# Altium footprint library DDS1.PcbLib: 136 footprints (part 3 of 9)
Each footprint in its own frame and in the unit in brackets; x right, y up, seen from the top. Pads: shape width x height; smd on the part's side, far side on the other; paste and mask are expansions set on the pad; w line width, h text height; cw(c..) or ccw(c..) is an arc to the next point about the centre after c.
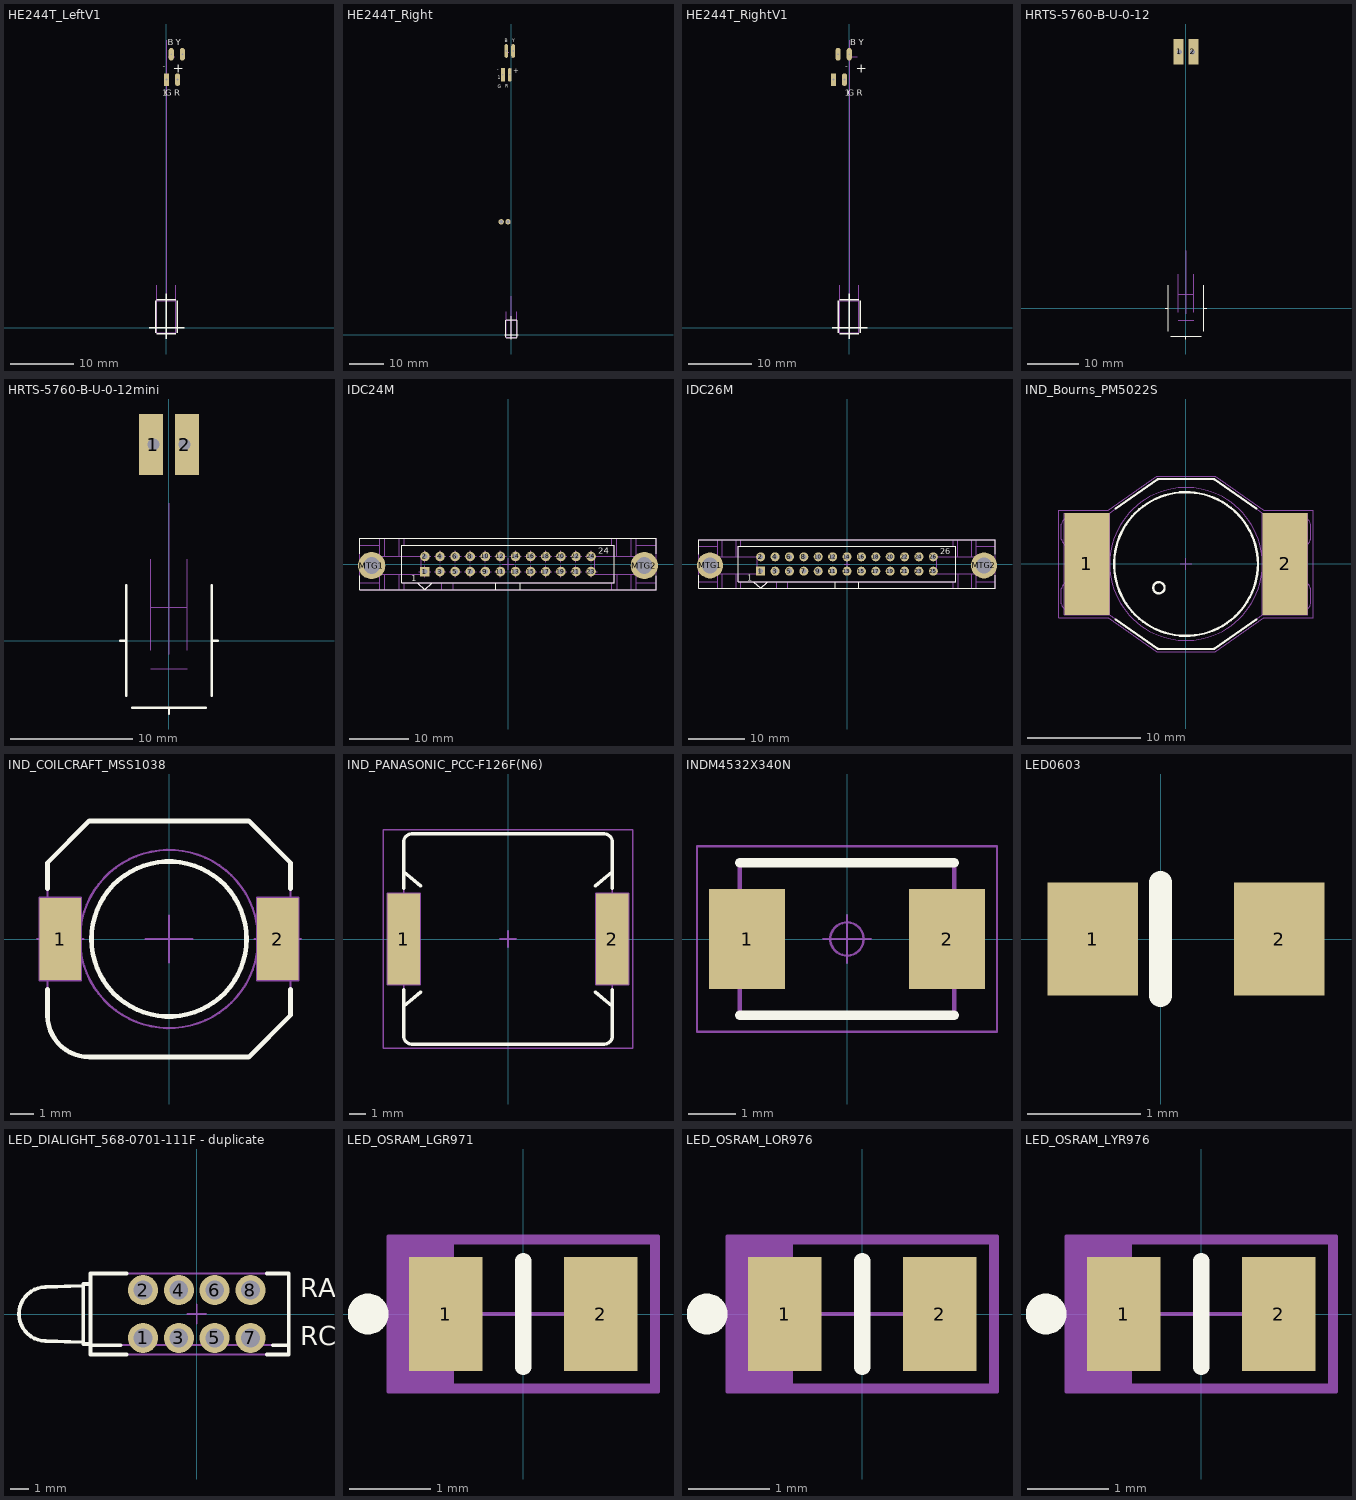
[diagram p2: the footprints below, top view; thin cyan lines are the x and y axes]

## HE244T_LeftV1 [mm] "he244t"
height 5.08
pads (4):
  rect 0.8x2 hole 0.3: 1(0,39)
  oval 0.8x2 hole 0.3: 2(1.75,39) 3(0.75,43) 4(2.5,43)
Top Overlay:
  lines w0.2: -2.7,0 2.8,0 ; -1.7,-0.8 -1.7,4.2 ; -1.5,-1 1.5,-1 ; -1.5,4.4 1.5,4.4 ; 0,-1.8 0,5.3 ; 1.7,-0.8 1.7,4.2
  text "+" at 1,40.1 h1.52
  text "-" at -0.6,40.4 h1.52
  text "G" at -0.2,36.5 h1
  text "Y" at 1.5,44.4 h1
  text "B" at 0.2,44.4 h1
  text "R" at 1.2,36.5 h1
  text "1" at -0.7,36.5 h1
Top Solder:
  rectangle: -1.5,-0.8 1.5,4.2
Mechanical 8:
  lines w0.1: 0.27,42.62 1.27,42.62
Mechanical 18:
  lines w0.05: -1.5,4.2 0,4.2 1.5,4.2 ; -1.5,6.645 -1.5,-0.8 0,-0.8 1.5,-0.8 1.5,6.62 ; 0,-1.1 0,45.2
3D body: height 0.8, standoff 0, extent -1.5,-0.8 1.5,4.2

## HE244T_Right [mm] "he244t"
height 5.08
pads (6):
  round 1.6 hole 1: 0(-3,33) 0(-1,33)
  rect 1.1x4 hole 0.5: 1(-2.5,76)
  oval 1.1x4 hole 0.5: 2(-0.5,76) 3(-1.5,83) 4(0.5,83)
Top Overlay:
  lines w0.2: -2,0 2,0 ; -1.7,-0.8 -1.7,4.2 ; -1.5,-1 1.5,-1 ; -1.5,4.4 1.5,4.4 ; 0,-1.3 0,5.3 ; 1.7,-0.8 1.7,4.2
  text "+" at 0.5,76.5 h1.52
  text "-" at -4.075,76.825 h1.52
  text "G" at -4,72.1 h1
  text "Y" at 0.3,85.5 h1
  text "B" at -1.9,85.5 h1
  text "R" at -1.8,72.2 h1
  text "1" at -4,74.7 h1
Top Solder:
  rectangle: -1.5,-0.8 1.5,4.2
Mechanical 8:
  lines w0.1: -1.73,82.62 -0.73,82.62
Mechanical 18:
  lines w0.05: -1.5,4.2 0,4.2 1.5,4.2 ; -1.5,6.645 -1.5,-0.8 0,-0.8 1.5,-0.8 1.5,6.62 ; 0,-1.1 0,11.2
3D body: height 0.8, standoff 0, extent -1.5,-0.8 1.5,4.2

## HE244T_RightV1 [mm] "he244t"
height 5.08
pads (4):
  rect 0.8x2 hole 0.3: 1(-2.5,39)
  oval 0.8x2 hole 0.3: 2(-0.75,39) 3(-1.75,43) 4(0,43)
Top Overlay:
  lines w0.2: -2.7,0 2.8,0 ; -1.7,-0.8 -1.7,4.2 ; -1.5,-1 1.5,-1 ; -1.5,4.4 1.5,4.4 ; 0,-1.8 0,5.3 ; 1.7,-0.8 1.7,4.2
  text "1" at -0.7,36.5 h1
  text "R" at 1.2,36.5 h1
  text "B" at 0.2,44.4 h1
  text "Y" at 1.5,44.4 h1
  text "G" at -0.2,36.5 h1
  text "-" at -0.6,40.4 h1.52
  text "+" at 1,40.1 h1.52
Top Solder:
  rectangle: -1.5,-0.8 1.5,4.2
Mechanical 8:
  lines w0.1: 0.27,42.62 1.27,42.62
Mechanical 18:
  lines w0.05: -1.5,4.2 0,4.2 1.5,4.2 ; -1.5,6.645 -1.5,-0.8 0,-0.8 1.5,-0.8 1.5,6.62 ; 0,-1.1 0,45.2
3D body: height 0.8, standoff 0, extent -1.5,-0.8 1.5,4.2

## HRTS-5760-B-U-0-12 [mm] "HRTS-5760-B-U-0-12"
height 5.08
pads (2):
  rect 2x5 hole 1 copper offset -0.2,0: 1(-1.27,50)
  rect 2x5 hole 1 copper offset 0.2,0: 2(1.27,50)
Top Overlay:
  lines w0.2: -4,0 -3.5,0 ; -3.5,-4.5 -3.5,4.5 ; -3,-5.5 3,-5.5 ; 0,-6 0,-5.5 ; 3.5,-4.5 3.5,-1.25 3.5,1.25 3.5,4.5 ; 3.5,0 4,0
Mechanical 18:
  lines w0.05: -1.5,-2.3 0,-2.3 1.5,-2.3 ; -1.5,-0.8 -1.5,6.645 ; -1.5,2.7 0,2.7 1.5,2.7 ; 0,-1.1 0,11.2 ; 1.5,-0.8 1.5,6.62
3D body: height -1, standoff -1.5, extent -2.5,-4 2.5,4
3D body: height 0.5, standoff -1, extent -2.5,-4 2.5,4

## HRTS-5760-B-U-0-12mini [mm] "Pt1000qwadratisch"
height 5.08
pads (2):
  rect 2x5 hole 1 copper offset -0.2,0: 1(-1.27,16)
  rect 2x5 hole 1 copper offset 0.2,0: 2(1.27,16)
Top Overlay:
  lines w0.2: -4,0 -3.5,0 ; -3.5,-4.5 -3.5,4.5 ; -3,-5.5 3,-5.5 ; 0,-6 0,-5.5 ; 3.5,-4.5 3.5,-1.25 3.5,1.25 3.5,4.5 ; 3.5,0 4,0
Mechanical 18:
  lines w0.05: -1.5,-2.3 0,-2.3 1.5,-2.3 ; -1.5,-0.8 -1.5,6.645 ; -1.5,2.7 0,2.7 1.5,2.7 ; 0,-1.1 0,11.2 ; 1.5,-0.8 1.5,6.62
3D body: height 0.5, standoff -1, extent -2.5,-4 2.5,4
3D body: height -1, standoff -1.5, extent -2.5,-4 2.5,4

## IDC24M [mm] "3M, 3000 Series, 24 Contacts - Pitch 2.54mm - Straight Four-Wall Header (Black) With Short Roll Pin Latch/Ejectors"
height 24.6
pads (26):
  rect 1.6x1.6 hole 0.9: 1(-13.97,-1.27)
  round 1.6 hole 0.9: 2(-13.97,1.27) 3(-11.43,-1.27) 4(-11.43,1.27) 5(-8.89,-1.27) 6(-8.89,1.27) 7(-6.35,-1.27) 8(-6.35,1.27) 9(-3.81,-1.27) 10(-3.81,1.27) 11(-1.27,-1.27) 12(-1.27,1.27) 13(1.27,-1.27) 14(1.27,1.27) 15(3.81,-1.27) 16(3.81,1.27) 17(6.35,-1.27) 18(6.35,1.27) 19(8.89,-1.27) 20(8.89,1.27) 21(11.43,-1.27) 22(11.43,1.27) 23(13.97,-1.27) 24(13.97,1.27)
  round 4.6 hole 2.8: MTG1(-22.924,-0.254) MTG2(22.924,-0.254)
Top Overlay:
  lines w0.2: -24.892,-2 -24.892,-4.318 ; -24.892,1.7 -24.892,4.3 ; -2.032,-4.318 -2.032,-3.175 ; 2.032,-4.318 2.032,-3.175 ; 14.732,-4.318 -24.892,-4.318 ; 14.732,4.318 -24.892,4.318 24.892,4.318 ; 24.892,-2 24.892,-4.318 -24.892,-4.318 ; 24.892,1.7 24.892,4.3 ; -17.907,-3.175 -17.907,3.175 17.907,3.175 17.907,-3.175 -17.907,-3.175 ; -15.24,-3.175 -13.97,-4.318 -12.7,-3.175 -15.24,-3.175
  text "24" at 15.205,1.727 h1.02
  text "1" at -16.307,-2.921 h1.02
Mechanical 8:
  lines w0.1: -14.97,-1.27 -13.97,-1.27 ; -14.97,1.27 -13.97,1.27 ; -13.97,-2.27 -13.97,-1.27 ; -13.97,-0.27 -13.97,-1.27 ; -13.97,0.27 -13.97,1.27 ; -13.97,2.27 -13.97,1.27 ; -12.97,-1.27 -13.97,-1.27 ; -12.97,1.27 -13.97,1.27 ; -12.43,-1.27 -11.43,-1.27 ; -12.43,1.27 -11.43,1.27 ; -11.43,-2.27 -11.43,-1.27 ; -11.43,-0.27 -11.43,-1.27 ; -11.43,0.27 -11.43,1.27 ; -11.43,2.27 -11.43,1.27 ; -10.43,-1.27 -11.43,-1.27 ; -10.43,1.27 -11.43,1.27 ; -9.89,-1.27 -8.89,-1.27 ; -9.89,1.27 -8.89,1.27 ; -8.89,-2.27 -8.89,-1.27 ; -8.89,-0.27 -8.89,-1.27 ; -8.89,0.27 -8.89,1.27 ; -8.89,2.27 -8.89,1.27 ; -7.89,-1.27 -8.89,-1.27 ; -7.89,1.27 -8.89,1.27 ; -7.35,-1.27 -6.35,-1.27 ; -7.35,1.27 -6.35,1.27 ; -6.35,-2.27 -6.35,-1.27 ; -6.35,-0.27 -6.35,-1.27 ; -6.35,0.27 -6.35,1.27 ; -6.35,2.27 -6.35,1.27 ; -5.35,-1.27 -6.35,-1.27 ; -5.35,1.27 -6.35,1.27 ; -4.81,-1.27 -3.81,-1.27 ; -4.81,1.27 -3.81,1.27 ; -3.81,-2.27 -3.81,-1.27 ; -3.81,-0.27 -3.81,-1.27 ; -3.81,0.27 -3.81,1.27 ; -3.81,2.27 -3.81,1.27 ; -2.81,-1.27 -3.81,-1.27 ; -2.81,1.27 -3.81,1.27 ; -2.27,-1.27 -1.27,-1.27 ; -2.27,1.27 -1.27,1.27 ; -1.27,-2.27 -1.27,-1.27 ; -1.27,-0.27 -1.27,-1.27 ; -1.27,0.27 -1.27,1.27 ; -1.27,2.27 -1.27,1.27 ; -1,0 0,0 ; -0.27,-1.27 -1.27,-1.27 ; -0.27,1.27 -1.27,1.27 ; 0,-1 0,0 ; 0,1 0,0 ; 0.27,-1.27 1.27,-1.27 ; 0.27,1.27 1.27,1.27 ; 1,0 0,0 ; 1.27,-2.27 1.27,-1.27 ; 1.27,-0.27 1.27,-1.27 ; 1.27,0.27 1.27,1.27 ; 1.27,2.27 1.27,1.27 ; 2.27,-1.27 1.27,-1.27 ; 2.27,1.27 1.27,1.27 ; 2.81,-1.27 3.81,-1.27 ; 2.81,1.27 3.81,1.27 ; 3.81,-2.27 3.81,-1.27 ; 3.81,-0.27 3.81,-1.27 ; 3.81,0.27 3.81,1.27 ; 3.81,2.27 3.81,1.27 ; 4.81,-1.27 3.81,-1.27 ; 4.81,1.27 3.81,1.27 ; 5.35,-1.27 6.35,-1.27 ; 5.35,1.27 6.35,1.27 ; 6.35,-2.27 6.35,-1.27 ; 6.35,-0.27 6.35,-1.27 ; 6.35,0.27 6.35,1.27 ; 6.35,2.27 6.35,1.27 ; 7.35,-1.27 6.35,-1.27 ; 7.35,1.27 6.35,1.27 ; 7.89,-1.27 8.89,-1.27 ; 7.89,1.265 8.89,1.265 ; 8.89,-2.27 8.89,-1.27 ; 8.89,-0.27 8.89,-1.27 ; 8.89,0.27 8.89,1.27 ; 8.89,2.27 8.89,1.27 ; 9.89,-1.27 8.89,-1.27 ; 9.89,1.27 8.89,1.27 ; 10.43,-1.27 11.43,-1.27 ; 10.43,1.27 11.43,1.27 ; 11.43,-2.27 11.43,-1.27 ; 11.43,-0.27 11.43,-1.27 ; 11.43,0.27 11.43,1.27 ; 11.43,2.27 11.43,1.27 ; 12.43,-1.27 11.43,-1.27 ; 12.43,1.27 11.43,1.27 ; 12.97,-1.27 13.97,-1.27 ; 12.97,1.265 13.97,1.265 ; 13.97,-2.27 13.97,-1.27 ; 13.97,-0.27 13.97,-1.27 ; 13.97,0.27 13.97,1.27 ; 13.97,2.27 13.97,1.27 ; 14.97,-1.27 13.97,-1.27 ; 14.97,1.27 13.97,1.27
Mechanical 14:
  circle w0.1: c-22.924,-0.254 r1.27
  circle w0.1: c22.924,-0.254 r1.27
  lines w0.1: -24.892,-3.175 -21.564,-3.175 ; -23.924,-0.254 -22.924,-0.254 ; -22.924,-1.254 -22.924,-0.254 ; -22.924,0.746 -22.924,-0.254 ; -21.924,-0.254 -22.924,-0.254 ; -21.564,-4.318 -21.564,-1.727 -14.605,-1.727 -14.605,1.27 -21.564,1.27 -21.564,4.318 ; -20.722,-4.318 -20.722,-1.727 ; -20.722,1.27 -20.722,4.318 ; -18.289,-4.318 -18.288,-1.727 ; -17.907,-1.727 -17.907,-3.175 17.907,-3.175 17.907,-1.727 ; -17.907,1.27 -17.907,3.175 17.907,3.175 17.907,1.27 ; -11.119,-4.318 -11.119,-3.175 ; -9.201,-4.318 -9.201,-3.175 ; 17.446,-4.318 17.446,-3.175 ; 17.446,3.175 17.446,4.318 ; 18.288,1.27 18.288,4.318 ; 18.329,-4.318 18.329,-1.727 ; 20.722,-4.318 20.722,-1.727 ; 20.722,1.27 20.722,4.318 ; 21.564,-4.318 21.564,-1.727 14.605,-1.727 14.605,1.27 21.564,1.27 21.564,4.318 ; 21.564,-3.175 24.892,-3.175 ; 21.564,3.175 24.892,3.175 ; 21.924,-0.254 22.924,-0.254 ; 22.924,-1.254 22.924,-0.254 ; 22.924,0.746 22.924,-0.254 ; 23.924,-0.254 22.924,-0.254 ; -24.892,-4.318 24.892,-4.318 24.892,4.318 -24.892,4.318 -24.892,-4.318 ; -24.892,3.175 -21.564,3.175 -24.892,3.175 ; -24.448,-1.134 -24.448,0.626 -22.924,1.506 -21.4,0.626 -21.4,-1.134 -22.924,-2.014 -24.448,-1.134 ; -18.288,1.27 -18.288,4.318 -18.288,1.27 ; -17.446,-4.318 -17.446,-3.175 -17.446,-4.318 ; -17.446,3.175 -17.446,4.318 -17.446,3.175 ; -15.24,-3.175 -13.97,-4.318 -12.7,-3.175 -15.24,-3.175 ; 21.4,-1.134 21.4,0.626 22.924,1.506 24.448,0.626 24.448,-1.134 22.924,-2.014 21.4,-1.134
  text "24" at 15.205,1.727 h1.02
  text "1" at -16.307,-2.921 h1.02
3D body "3M_3627-6202RB.stp": height 24.64, standoff -3.94, extent -24.892,-4.318 24.892,4.318

## IDC26M [mm] "3M, 3000 Series, 26 Contacts - Pitch 2.54mm - Straight Four-Wall Header (Black) With Long Roll Pin Latch/Ejectors"
height 24.6
pads (28):
  rect 1.6x1.6 hole 0.9: 1(-15.24,-1.27)
  round 1.6 hole 0.9: 2(-15.24,1.27) 3(-12.7,-1.27) 4(-12.7,1.27) 5(-10.16,-1.27) 6(-10.16,1.27) 7(-7.62,-1.27) 8(-7.62,1.27) 9(-5.08,-1.27) 10(-5.08,1.27) 11(-2.54,-1.27) 12(-2.54,1.27) 13(0,-1.27) 14(0,1.27) 15(2.54,-1.27) 16(2.54,1.27) 17(5.08,-1.27) 18(5.08,1.27) 19(7.62,-1.27) 20(7.62,1.27) 21(10.16,-1.27) 22(10.16,1.27) 23(12.7,-1.27) 24(12.7,1.27) 25(15.24,-1.27) 26(15.24,1.27)
  round 4.6 hole 2.8: MTG1(-24.18,-0.25) MTG2(24.18,-0.25)
Top Overlay:
  lines w0.2: -26.162,-2 -26.162,-4.318 26.162,-4.318 26.162,-2 ; -26.162,1.7 -26.162,4.3 ; -26.162,4.318 26.162,4.318 ; -2.032,-4.318 -2.032,-3.175 ; 2.032,-4.318 2.032,-3.175 ; 26.162,1.7 26.162,4.3 ; -19.177,-3.175 -19.177,3.175 19.177,3.175 19.177,-3.175 -19.177,-3.175 ; -16.51,-3.175 -15.24,-4.318 -13.97,-3.175 -16.51,-3.175
  text "26" at 16.475,1.727 h1.02
  text "1" at -17.577,-2.921 h1.02
Mechanical 8:
  lines w0.1: -24.68,-0.25 -24.18,-0.25 ; -24.18,-0.75 -24.18,-0.25 ; -24.18,0.25 -24.18,-0.25 ; -23.68,-0.25 -24.18,-0.25 ; -15.74,-1.27 -15.24,-1.27 ; -15.74,1.27 -15.24,1.27 ; -15.24,-1.77 -15.24,-1.27 ; -15.24,-0.77 -15.24,-1.27 ; -15.24,0.77 -15.24,1.27 ; -15.24,1.77 -15.24,1.27 ; -14.74,-1.27 -15.24,-1.27 ; -14.74,1.27 -15.24,1.27 ; -13.2,-1.27 -12.7,-1.27 ; -13.2,1.27 -12.7,1.27 ; -12.7,-1.77 -12.7,-1.27 ; -12.7,-0.77 -12.7,-1.27 ; -12.7,0.77 -12.7,1.27 ; -12.7,1.77 -12.7,1.27 ; -12.2,-1.27 -12.7,-1.27 ; -12.2,1.27 -12.7,1.27 ; -10.66,-1.27 -10.16,-1.27 ; -10.66,1.27 -10.16,1.27 ; -10.16,-1.77 -10.16,-1.27 ; -10.16,-0.77 -10.16,-1.27 ; -10.16,0.77 -10.16,1.27 ; -10.16,1.77 -10.16,1.27 ; -9.66,-1.27 -10.16,-1.27 ; -9.66,1.27 -10.16,1.27 ; -8.12,-1.27 -7.62,-1.27 ; -8.12,1.27 -7.62,1.27 ; -7.62,-1.77 -7.62,-1.27 ; -7.62,-0.77 -7.62,-1.27 ; -7.62,0.77 -7.62,1.27 ; -7.62,1.77 -7.62,1.27 ; -7.12,-1.27 -7.62,-1.27 ; -7.12,1.27 -7.62,1.27 ; -5.58,-1.27 -5.08,-1.27 ; -5.58,1.27 -5.08,1.27 ; -5.08,-1.77 -5.08,-1.27 ; -5.08,-0.77 -5.08,-1.27 ; -5.08,0.77 -5.08,1.27 ; -5.08,1.77 -5.08,1.27 ; -4.58,-1.27 -5.08,-1.27 ; -4.58,1.27 -5.08,1.27 ; -3.04,-1.27 -2.54,-1.27 ; -3.04,1.27 -2.54,1.27 ; -2.54,-1.77 -2.54,-1.27 ; -2.54,-0.77 -2.54,-1.27 ; -2.54,0.77 -2.54,1.27 ; -2.54,1.77 -2.54,1.27 ; -2.04,-1.27 -2.54,-1.27 ; -2.04,1.27 -2.54,1.27 ; -0.5,-1.27 0,-1.27 ; -0.5,0 0,0 ; -0.5,1.27 0,1.27 ; 0,-1.77 0,-1.27 ; 0,-0.77 0,-1.27 ; 0,-0.5 0,0 ; 0,0.5 0,0 ; 0,0.77 0,1.27 ; 0,1.77 0,1.27 ; 0.5,-1.27 0,-1.27 ; 0.5,0 0,0 ; 0.5,1.27 0,1.27 ; 2.04,-1.27 2.54,-1.27 ; 2.04,1.27 2.54,1.27 ; 2.54,-1.77 2.54,-1.27 ; 2.54,-0.77 2.54,-1.27 ; 2.54,0.77 2.54,1.27 ; 2.54,1.77 2.54,1.27 ; 3.04,-1.27 2.54,-1.27 ; 3.04,1.27 2.54,1.27 ; 4.58,-1.27 5.08,-1.27 ; 4.58,1.27 5.08,1.27 ; 5.08,-1.77 5.08,-1.27 ; 5.08,-0.77 5.08,-1.27 ; 5.08,0.77 5.08,1.27 ; 5.08,1.77 5.08,1.27 ; 5.58,-1.27 5.08,-1.27 ; 5.58,1.27 5.08,1.27 ; 7.12,-1.27 7.62,-1.27 ; 7.12,1.27 7.62,1.27 ; 7.62,-1.77 7.62,-1.27 ; 7.62,-0.77 7.62,-1.27 ; 7.62,0.77 7.62,1.27 ; 7.62,1.77 7.62,1.27 ; 8.12,-1.27 7.62,-1.27 ; 8.12,1.27 7.62,1.27 ; 9.66,-1.27 10.16,-1.27 ; 9.66,1.27 10.16,1.27 ; 10.16,-1.77 10.16,-1.27 ; 10.16,-0.77 10.16,-1.27 ; 10.16,0.77 10.16,1.27 ; 10.16,1.77 10.16,1.27 ; 10.66,-1.27 10.16,-1.27 ; 10.66,1.27 10.16,1.27 ; 12.2,-1.27 12.7,-1.27 ; 12.2,1.27 12.7,1.27 ; 12.7,-1.77 12.7,-1.27 ; 12.7,-0.77 12.7,-1.27 ; 12.7,0.77 12.7,1.27 ; 12.7,1.77 12.7,1.27 ; 13.2,-1.27 12.7,-1.27 ; 13.2,1.27 12.7,1.27 ; 14.74,-1.27 15.24,-1.27 ; 14.74,1.27 15.24,1.27 ; 15.24,-1.77 15.24,-1.27 ; 15.24,-0.77 15.24,-1.27 ; 15.24,0.77 15.24,1.27 ; 15.24,1.77 15.24,1.27 ; 15.74,-1.27 15.24,-1.27 ; 15.74,1.27 15.24,1.27 ; 23.68,-0.25 24.18,-0.25 ; 24.18,-0.75 24.18,-0.25 ; 24.18,0.25 24.18,-0.25 ; 24.68,-0.25 24.18,-0.25
Mechanical 14:
  circle w0.1: c-24.194,-0.254 r1.27
  circle w0.1: c24.194,-0.254 r1.27
  lines w0.1: -26.162,-3.175 -22.834,-3.175 ; -22.834,-4.318 -22.834,-1.727 -15.875,-1.727 -15.875,1.27 -22.834,1.27 -22.834,4.318 ; -21.992,-4.318 -21.992,-1.727 ; -21.992,1.27 -21.992,4.318 ; -19.559,-4.318 -19.558,-1.727 ; -19.177,-1.727 -19.177,-3.175 19.177,-3.175 19.177,-1.727 ; -19.177,1.27 -19.177,3.175 19.177,3.175 19.177,1.27 ; -12.389,-4.318 -12.389,-3.175 ; -10.471,-4.318 -10.471,-3.175 ; 18.716,-4.318 18.716,-3.175 ; 18.716,3.175 18.716,4.318 ; 19.558,1.27 19.558,4.318 ; 19.599,-4.318 19.599,-1.727 ; 21.992,-4.318 21.992,-1.727 ; 21.992,1.27 21.992,4.318 ; 22.834,-4.318 22.834,-1.727 15.875,-1.727 15.875,1.27 22.834,1.27 22.834,4.318 ; 22.834,-3.175 26.162,-3.175 ; 22.834,3.175 26.162,3.175 ; -26.162,-4.318 26.162,-4.318 26.162,4.318 -26.162,4.318 -26.162,-4.318 ; -26.162,3.175 -22.834,3.175 -26.162,3.175 ; -25.718,-1.134 -25.718,0.626 -24.194,1.506 -22.67,0.626 -22.67,-1.134 -24.194,-2.014 -25.718,-1.134 ; -19.558,1.27 -19.558,4.318 -19.558,1.27 ; -18.716,-4.318 -18.716,-3.175 -18.716,-4.318 ; -18.716,3.175 -18.716,4.318 -18.716,3.175 ; -16.51,-3.175 -15.24,-4.318 -13.97,-3.175 -16.51,-3.175 ; 22.67,-1.134 22.67,0.626 24.194,1.506 25.718,0.626 25.718,-1.134 24.194,-2.014 22.67,-1.134
  text "26" at 16.475,1.727 h1.02
  text "1" at -17.577,-2.921 h1.02
3D body "3M_N3429-6302RB.stp": height 27.18, standoff -3.94, extent -26.162,-4.318 26.162,4.318

## IND_Bourns_PM5022S [mm] "SMD Power Choke, Body Width 15mm Body Lenght 15mm Height 7.8mm, WURTH WE-PD 4 Serie Type XL"
height 7.8
pads (2):
  rect 4x9 smd: 1(-8.75,0) 2(8.75,0)
Top Overlay:
  circle w0.2: c-2.395,-2.099 r0.5
  circle w0.2: c0,0 r6.35
  lines w0.2: -6.214,-4.9 -2.552,-7.464 ccw(c-2.437,-7.3) -2.437,-7.5 2.437,-7.5 ccw(c2.437,-7.3) 2.552,-7.464 6.214,-4.9 ; -6.214,4.9 -2.552,7.464 cw(c-2.437,7.3) -2.437,7.5 2.437,7.5 cw(c2.437,7.3) 2.552,7.464 6.214,4.9
Mechanical 8:
  lines w0.1: -9.25,0 -8.75,0 ; -8.75,-0.5 -8.75,0 ; -8.75,0.5 -8.75,0 ; -8.25,0 -8.75,0 ; -0.5,0 0,0 ; 0,-0.5 0,0 ; 0,0.5 0,0 ; 0.5,0 0,0 ; 8.25,0 8.75,0 ; 8.75,-0.5 8.75,0 ; 8.75,0.5 8.75,0 ; 9.25,0 8.75,0 ; -10.75,-4.5 -6.75,-4.5 -6.75,4.5 -10.75,4.5 -10.75,-4.5 ; 6.75,-4.5 10.75,-4.5 10.75,4.5 6.75,4.5 6.75,-4.5
Mechanical 14:
  circle w0.1: c-2.395,-2.099 r0.5
  circle w0.1: c0,0 r6.75
  lines w0.1: -9.8,-3 -10,-3 -10,-3.5 cw(c-10.5,-3.5) -11,-3.5 -11,-2.2 cw(c-10.5,-2.2) -10.852,-1.845 -10.059,-1.059 ccw(c-10.2,-0.917) -10,-0.917 -10,0.917 ccw(c-10.2,0.917) -10.059,1.059 -10.852,1.845 cw(c-10.5,2.2) -11,2.2 -11,3.5 cw(c-10.5,3.5) -10,3.5 -10,3 -9.8,3 ; -7.5,-3.896 ccw(c-7.3,-3.896) -7.415,-4.06 -2.552,-7.464 ccw(c-2.437,-7.3) -2.437,-7.5 2.437,-7.5 ccw(c2.437,-7.3) 2.552,-7.464 7.415,-4.06 ccw(c7.3,-3.896) 7.5,-3.896 ; -7.5,3.896 cw(c-7.3,3.896) -7.415,4.06 -2.552,7.464 cw(c-2.437,7.3) -2.437,7.5 2.437,7.5 cw(c2.437,7.3) 2.552,7.464 7.415,4.06 cw(c7.3,3.896) 7.5,3.896 ; 9.8,-3 10,-3 10,-3.5 ccw(c10.5,-3.5) 11,-3.5 11,-2.2 ccw(c10.5,-2.2) 10.852,-1.845 10.059,-1.059 cw(c10.2,-0.917) 10,-0.917 10,0.917 cw(c10.2,0.917) 10.059,1.059 10.852,1.845 ccw(c10.5,2.2) 11,2.2 11,3.5 ccw(c10.5,3.5) 10,3.5 10,3 9.8,3 ; -9.8,-4 -9.8,4 -7.5,4 -7.5,-4 -9.8,-4 ; 7.5,-4 7.5,4 9.8,4 9.8,-4 7.5,-4
Mechanical 15:
  lines w0.1: -11.25,-4.75 -6.865,-4.75 -2.579,-7.75 2.579,-7.75 6.865,-4.75 11.25,-4.75 11.25,4.75 6.865,4.75 2.579,7.75 -2.579,7.75 -6.865,4.75 -11.25,4.75 -11.25,-4.75
3D body "IND_WURTH_WE-PD4-XL.stp": height 7, standoff 0, extent -11,-7.5 11,7.5

## IND_COILCRAFT_MSS1038 [mm] "SMD Inductor  Body Width 10mm Body Lenght 10.2mm Height 4mm"
height 4
pads (2):
  rect 1.78x3.56 smd: 1(-4.7,0) 2(4.7,0)
Top Overlay:
  circle w0.2: c0,0 r3.35
  lines w0.2: -5.25,-2.18 -5.25,-3.3 ccw(c-3.45,-3.3) -3.45,-5.1 3.45,-5.1 5.25,-3.3 5.25,-2.18 ; -5.25,2.18 -5.25,3.3 -3.45,5.1 3.45,5.1 5.25,3.3 5.25,2.18
Mechanical 8:
  lines w0.1: -5.7,0 -4.7,0 ; -4.7,-1 -4.7,0 ; -4.7,1 -4.7,0 ; -3.7,0 -4.7,0 ; -1,0 0,0 ; 0,-1 0,0 ; 0,1 0,0 ; 1,0 0,0 ; 3.7,0 4.7,0 ; 4.7,-1 4.7,0 ; 4.7,1 4.7,0 ; 5.7,0 4.7,0 ; -5.59,-1.78 -3.81,-1.78 -3.81,1.78 -5.59,1.78 -5.59,-1.78 ; 3.81,-1.78 5.59,-1.78 5.59,1.78 3.81,1.78 3.81,-1.78
Mechanical 14:
  circle w0.1: c0,0 r3.85
  circle w0.1: c0,0 r3.35
  lines w0.1: -5.25,-1.6 -5.25,1.6 ; -5.25,-1.6 -5.25,-3.3 ccw(c-3.45,-3.3) -3.45,-5.1 3.45,-5.1 5.25,-3.3 5.25,-1.6 ; -5.25,-1.6 -3.85,-1.6 -3.85,1.6 -5.25,1.6 ; -5.25,1.6 -5.25,3.3 -3.45,5.1 3.45,5.1 5.25,3.3 5.25,1.6 ; 5.25,-1.6 5.25,1.6 ; 5.25,-1.6 3.85,-1.6 3.85,1.6 5.25,1.6
3D body "IND_COILCRAFT_MSS1038.stp": height 4, standoff 0, extent -5.25,-5.1 5.25,5.1

## IND_PANASONIC_PCC-F126F(N6) [mm] "SMD Inductor  Body Width 12.5mm Body Lenght 12.5mm Height 5.7mm, PANASONIC PCC-F126(N6) Series"
height 5.7
pads (2):
  rect 2x5.6 smd: 1(-6.4,0) 2(6.4,0)
Top Overlay:
  lines w0.2: -6.4,-4.125 -5.35,-3.25 ; -6.4,-3.1 -6.4,-5.95 ccw(c-5.9,-5.95) -5.9,-6.45 5.9,-6.45 ccw(c5.9,-5.95) 6.4,-5.95 6.4,-3.1 ; -6.4,3.1 -6.4,5.95 cw(c-5.9,5.95) -5.9,6.45 5.9,6.45 cw(c5.9,5.95) 6.4,5.95 6.4,3.1 ; -6.4,4.125 -5.35,3.25 ; 5.35,-3.25 6.4,-4.125 ; 5.35,3.25 6.4,4.125
Mechanical 8:
  lines w0.1: -6.9,0 -6.4,0 ; -6.4,-0.5 -6.4,0 ; -6.4,0.5 -6.4,0 ; -5.9,0 -6.4,0 ; -0.5,0 0,0 ; 0,-0.5 0,0 ; 0,0.5 0,0 ; 0.5,0 0,0 ; 5.9,0 6.4,0 ; 6.4,-0.5 6.4,0 ; 6.4,0.5 6.4,0 ; 6.9,0 6.4,0 ; -7.4,-2.8 -5.4,-2.8 -5.4,2.8 -7.4,2.8 -7.4,-2.8 ; 5.4,-2.8 7.4,-2.8 7.4,2.8 5.4,2.8 5.4,-2.8
Mechanical 14:
  lines w0.1: -6.4,-5.95 ccw(c-5.9,-5.95) -5.9,-6.45 5.9,-6.45 ccw(c5.9,-5.95) 6.4,-5.95 6.4,5.95 ccw(c5.9,5.95) 5.9,6.45 -5.9,6.45 ccw(c-5.9,5.95) -6.4,5.95 -6.4,-5.95
Mechanical 15:
  lines w0.1: -7.65,-6.7 -7.65,6.7 7.65,6.7 7.65,-6.7 -7.65,-6.7
3D body "IND_PANASONIC_PCC-F126F(N6).stp": height 5.7, standoff -0.3, extent -6.25,-6.25 6.25,6.25

## INDM4532X340N [mm]
pads (2):
  rect 1.6x2.1 smd: 1(-2.1,0) 2(2.1,0)
Top Overlay:
  lines w0.2: -2.25,-1.6 2.25,-1.6 ; -2.25,1.6 2.25,1.6
Mechanical 14:
  lines w0.1: -2.25,-1.6 2.25,-1.6 2.25,1.6 -2.25,1.6 -2.25,-1.6
Mechanical 15:
  circle w0.05: c0,0 r0.35
  lines w0.05: -0.5,0 0.5,0 ; 0,-0.5 0,0.5 ; -3.15,-1.95 3.15,-1.95 3.15,1.95 -3.15,1.95 -3.15,-1.95
3D body "INDM4532X340N.stp": height 3.4, standoff 0, extent -2.25,-1.6 2.25,1.6

## LED0603 [mm]
pads (2):
  rect 0.8x1 smd: 1(-0.6,0) 2(1.05,0)
Top Overlay:
  lines w0.2: 0,-0.5 0,-0.25 0,0.25 0,0.5
Mechanical 14:
  lines w0.1: -0.65,-0.4 -0.65,0.4 ; 0.95,-0.4 0.95,0.4
3D body: height 0.95, standoff 0.1, extent -0.487,-0.475 1.037,0.475
3D body: height 0.1, standoff 0, extent -0.3,-0.475 0.85,0.475
3D body: height 0.1, standoff 0, extent 0.85,-0.475 1.224,0.475
3D body: height 0.1, standoff 0, extent -0.674,-0.475 -0.3,0.475

## LED_DIALIGHT_568-0701-111F - duplicate [mm] "Quad-Level 4x3mm Bi-Color Red/Green, LED CBI Circuit Board Indicator"
height 20.32
pads (8):
  round 1.6 hole 1: 1(-2.857,-1.27) 2(-2.857,1.27) 3(-0.952,-1.27) 4(-0.952,1.27) 5(0.953,-1.27) 6(0.953,1.27) 7(2.858,-1.27) 8(2.858,1.27)
Top Overlay:
  lines w0.2: -6.032,-1.499 -8.05,-1.441 cw(c-8.014,0) -8.05,1.441 -6.032,1.499 ; -5.651,-1.659 -4.045,-1.659 ; -5.651,-1.6 -6.032,-1.6 -6.032,1.6 -5.651,1.6 ; -3.736,-2.159 -5.651,-2.159 -5.651,2.159 -3.736,2.159 ; 3.736,-2.159 4.89,-2.159 4.89,2.159 3.736,2.159 ; 4.045,-1.659 4.89,-1.659
  text "RC" at 5.502,-1.651 h1
  text "RA" at 5.502,0.889 h1
Mechanical 8:
  lines w0.1: -3.357,-1.27 -2.857,-1.27 ; -3.357,1.27 -2.857,1.27 ; -2.857,-1.77 -2.857,-1.27 ; -2.857,-0.77 -2.857,-1.27 ; -2.857,0.77 -2.857,1.27 ; -2.857,1.77 -2.857,1.27 ; -2.357,-1.27 -2.857,-1.27 ; -2.357,1.27 -2.857,1.27 ; -1.452,-1.27 -0.952,-1.27 ; -1.452,1.27 -0.952,1.27 ; -0.952,-1.77 -0.952,-1.27 ; -0.952,-0.77 -0.952,-1.27 ; -0.952,0.77 -0.952,1.27 ; -0.952,1.77 -0.952,1.27 ; -0.5,0 0,0 ; -0.452,-1.27 -0.952,-1.27 ; -0.452,1.27 -0.952,1.27 ; 0,-0.5 0,0 ; 0,0.5 0,0 ; 0.453,-1.27 0.953,-1.27 ; 0.453,1.27 0.953,1.27 ; 0.5,0 0,0 ; 0.953,-1.77 0.953,-1.27 ; 0.953,-0.77 0.953,-1.27 ; 0.953,0.77 0.953,1.27 ; 0.953,1.77 0.953,1.27 ; 1.453,-1.27 0.953,-1.27 ; 1.453,1.27 0.953,1.27 ; 2.358,-1.27 2.858,-1.27 ; 2.358,1.27 2.858,1.27 ; 2.858,-1.77 2.858,-1.27 ; 2.858,-0.77 2.858,-1.27 ; 2.858,0.77 2.858,1.27 ; 2.858,1.77 2.858,1.27 ; 3.358,-1.27 2.858,-1.27 ; 3.358,1.27 2.858,1.27
Mechanical 14:
  lines w0.1: -6.032,-1.499 -8.05,-1.441 cw(c-8.014,0) -8.05,1.441 -6.032,1.499 ; -5.651,-1.659 4.89,-1.659 ; -5.651,-1.6 -6.032,-1.6 -6.032,1.6 -5.651,1.6 ; -5.651,-2.159 4.89,-2.159 4.89,2.159 -5.651,2.159 -5.651,-2.159
  text "RC" at 5.503,-1.651 h1
  text "RA" at 5.503,0.889 h1
3D body "LED_DIALIGHT_568-0701-111F.stp": height 20.32, standoff -3.68, extent -9.455,-2.159 4.89,2.159

## LED_OSRAM_LGR971 [mm] "Green Chip LED, 2-Leads, Body 2.0x1.25mm, IPC Medium Density"
height 0.9
pads (2):
  rect 0.9x1.4 smd: 1(-0.95,0) 2(0.95,0)
Top Overlay:
  circle w0.25: c-1.9,0 r0.125
  lines w0.2: 0,-0.65 0,0.65
Mechanical 14:
  lines w0.1: -1.5,-0.9 -1.5,0.9 ; -1.4,-0.9 -1.4,0.9 ; -1.3,-0.9 -1.3,0.9 ; -1.2,-0.9 -1.2,0.9 ; -1.1,-0.9 -1.1,0.9 ; -1,-0.9 -1,0.9 ; -0.9,-0.9 -0.9,0.9 ; -1.6,-0.9 1.6,-0.9 1.6,0.9 -1.6,0.9 -1.6,-0.9
Mechanical 15:
  lines w0.05: -0.5,0 0.5,0 ; 0,-0.5 0,0.5 ; -1.65,-0.95 1.65,-0.95 1.65,0.95 -1.65,0.95 -1.65,-0.95
3D body "LED_OSRAM_LGR971.stp": height 0.9, standoff 0, extent -1.05,-0.675 1.05,0.675

## LED_OSRAM_LOR976 [mm] "Orange Chip LED, 2-Leads, Body 2.0x1.25mm, IPC Medium Density"
height 0.9
pads (2):
  rect 0.9x1.4 smd: 1(-0.95,0) 2(0.95,0)
Top Overlay:
  circle w0.25: c-1.9,0 r0.125
  lines w0.2: 0,-0.65 0,0.65
Mechanical 14:
  lines w0.1: -1.5,-0.9 -1.5,0.9 ; -1.4,-0.9 -1.4,0.9 ; -1.3,-0.9 -1.3,0.9 ; -1.2,-0.9 -1.2,0.9 ; -1.1,-0.9 -1.1,0.9 ; -1,-0.9 -1,0.9 ; -0.9,-0.9 -0.9,0.9 ; -1.6,-0.9 1.6,-0.9 1.6,0.9 -1.6,0.9 -1.6,-0.9
Mechanical 15:
  lines w0.05: -0.5,0 0.5,0 ; 0,-0.5 0,0.5 ; -1.65,-0.95 1.65,-0.95 1.65,0.95 -1.65,0.95 -1.65,-0.95
3D body "LED_OSRAM_LOR976.stp": height 0.9, standoff 0, extent -1.05,-0.675 1.05,0.675

## LED_OSRAM_LYR976 [mm] "Yellow Chip LED, 2-Leads, Body 2.0x1.25mm, IPC Medium Density"
height 0.9
pads (2):
  rect 0.9x1.4 smd: 1(-0.95,0) 2(0.95,0)
Top Overlay:
  circle w0.25: c-1.9,0 r0.125
  lines w0.2: 0,-0.65 0,0.65
Mechanical 14:
  lines w0.1: -1.5,-0.9 -1.5,0.9 ; -1.4,-0.9 -1.4,0.9 ; -1.3,-0.9 -1.3,0.9 ; -1.2,-0.9 -1.2,0.9 ; -1.1,-0.9 -1.1,0.9 ; -1,-0.9 -1,0.9 ; -0.9,-0.9 -0.9,0.9 ; -1.6,-0.9 1.6,-0.9 1.6,0.9 -1.6,0.9 -1.6,-0.9
Mechanical 15:
  lines w0.05: -0.5,0 0.5,0 ; 0,-0.5 0,0.5 ; -1.65,-0.95 1.65,-0.95 1.65,0.95 -1.65,0.95 -1.65,-0.95
3D body "LED_OSRAM_LYR976.stp": height 0.9, standoff 0, extent -1.05,-0.675 1.05,0.675